# Altium footprint library lib.PcbLib: 39 footprints (part 2 of 3)
Each footprint in its own frame and in the unit in brackets; x right, y up, seen from the top. Pads: shape width x height; smd on the part's side, far side on the other; paste and mask are expansions set on the pad; w line width, h text height; cw(c..) or ccw(c..) is an arc to the next point about the centre after c.
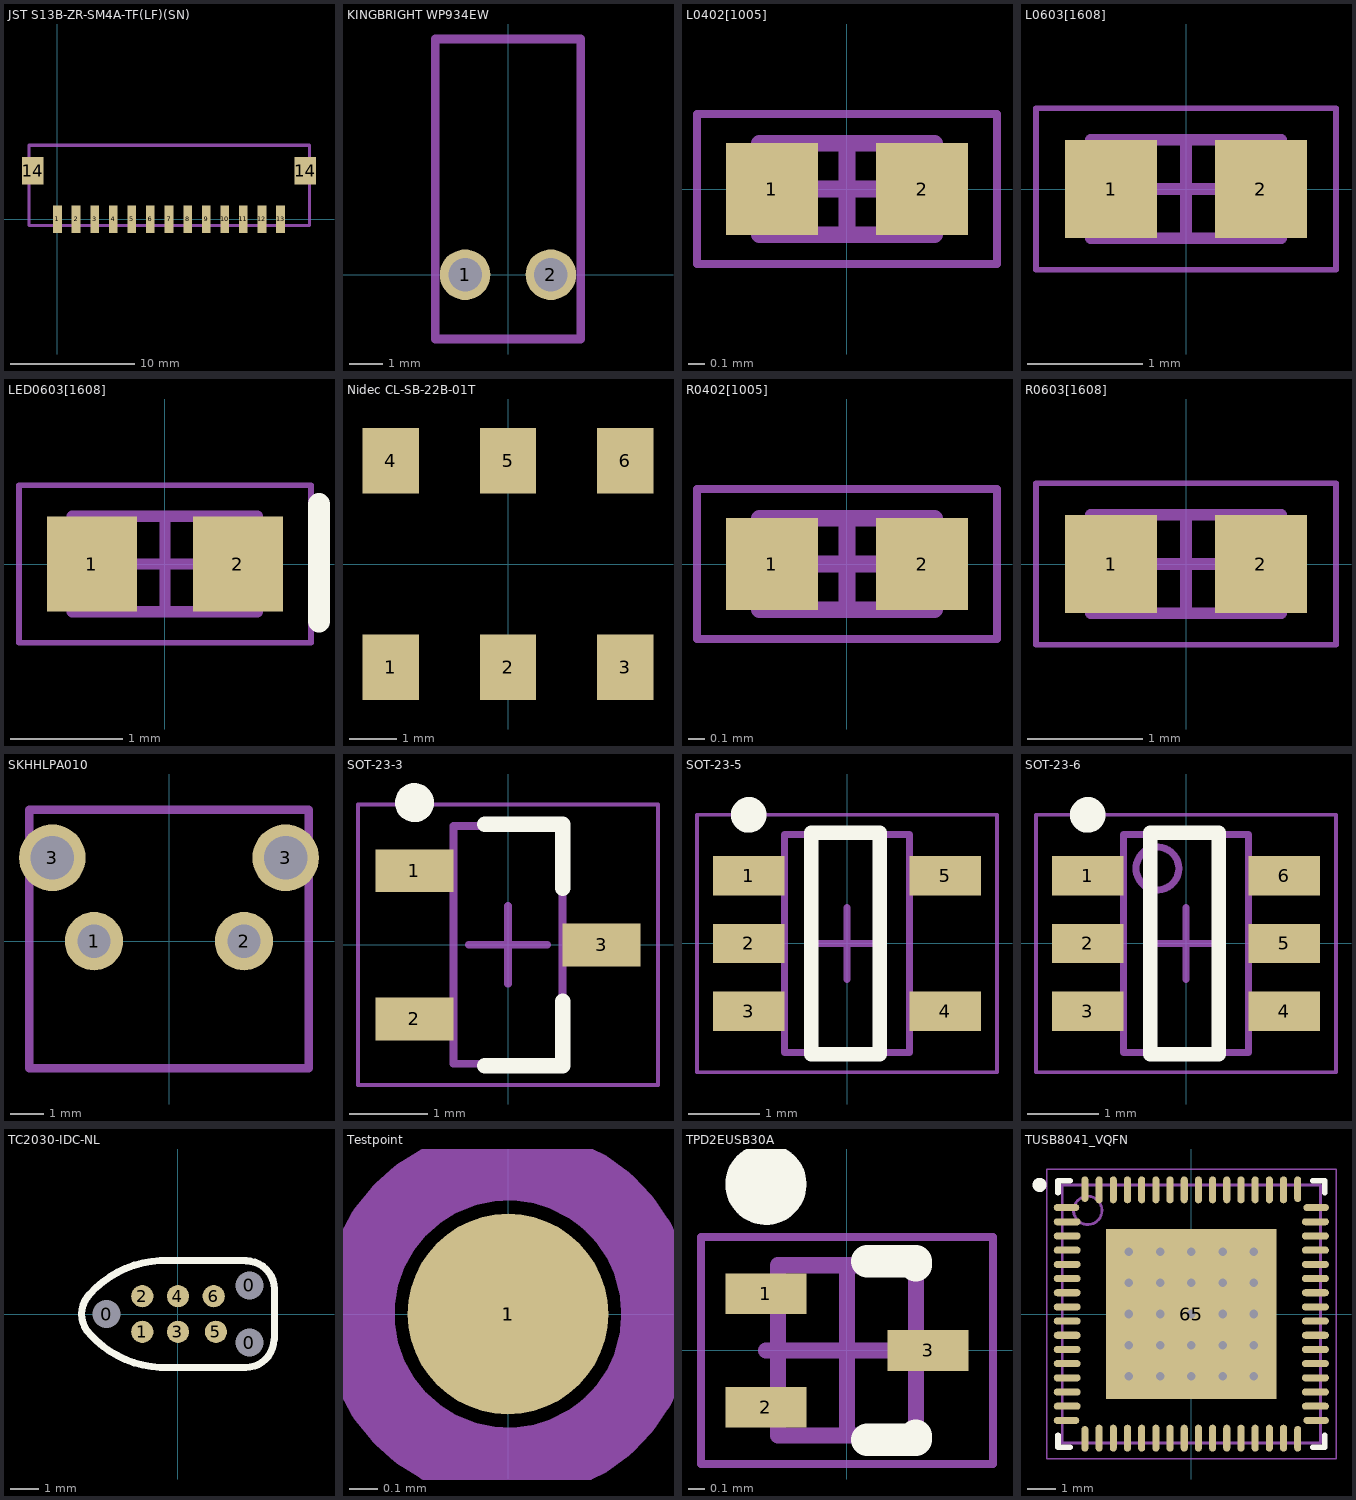
[diagram p1: the footprints below, top view; thin cyan lines are the x and y axes]

## JST S13B-ZR-SM4A-TF(LF)(SN) [mm]
pads (15):
  rect 0.7x2.2 smd: 1(0,0) 2(1.5,0) 3(3,0) 4(4.5,0) 5(6,0) 6(7.5,0) 7(9,0) 8(10.5,0) 9(12,0) 10(13.5,0) 11(15,0) 12(16.5,0) 13(18,0)
  rect 1.75x2.2 smd: 14(-2,3.9) 14(20,3.9)
Mechanical 13:
  lines w0.254: -2.286,-0.508 20.32,-0.508 20.32,5.969 -2.286,5.969 -2.286,-0.508
  text ".Designator" at 6.35,3.175 h0.5
3D body "S13B-ZR-SM4A-TF.STEP": height 3.7, standoff 0, extent -2.233,-0.531 20.267,5.969

## KINGBRIGHT WP934EW [mm]
height 7.3
pads (2):
  round 1.5 hole 1: 1(-1.27,0) 2(1.27,0)
Mechanical 13:
  lines w0.254: -2.16,-1.905 -2.16,6.985 2.16,6.985 2.16,-1.905 -2.16,-1.905
  text ".Designator" at -0.152,6.198 h0.5
3D body "934EW-1(1).STEP": height 7.35, standoff -3.63, extent -2.16,-1.905 2.16,6.985

## L0402[1005] [mm] "Chip Resistor, 2-Leads, Body 1,00x0,50mm, IPC Medium Density"
height 0.5
pads (2):
  rect 0.55x0.55 smd: 1(-0.45,0) 2(0.45,0)
Mechanical 13:
  lines w0.1: -0.525,-0.275 -0.525,0.275 0.525,0.275 0.525,-0.275 -0.525,-0.275
  text ".Designator" at -0.425,-0.1 h0.2
Mechanical 15:
  lines w0.05: -0.9,-0.45 -0.9,0.45 0.9,0.45 0.9,-0.45 -0.9,-0.45
  lines w0.1: -0.275,0 0.275,0 ; 0,-0.275 0,0.275
3D body: height 0.5, standoff 0, extent -0.325,-0.275 0.325,0.275

## L0603[1608] [mm] "Chip Resistor, 2-Leads, Body 1,57x0,80mm, IPC Medium Density"
height 0.5
pads (2):
  rect 0.8x0.85 smd: 1(-0.65,0) 2(0.65,0)
Mechanical 13:
  lines w0.1: -0.825,-0.425 -0.825,0.425 0.825,0.425 0.825,-0.425 -0.825,-0.425
  text ".Designator" at -1.05,-0.275 h0.35
Mechanical 15:
  lines w0.05: -1.3,-0.7 -1.3,0.7 1.3,0.7 1.3,-0.7 -1.3,-0.7
  lines w0.1: -0.425,0 0.425,0 ; 0,-0.425 0,0.425
3D body: height 0.5, standoff 0, extent -0.825,-0.425 -0.525,0.425
3D body: height 0.5, standoff 0, extent 0.525,-0.425 0.825,0.425
3D body: height 0.5, standoff 0, extent -0.525,-0.425 0.525,0.425

## LED0603[1608] [mm] "Chip Resistor, 2-Leads, Body 1,57x0,80mm, IPC Medium Density"
height 0.5
pads (2):
  rect 0.8x0.85 smd: 1(-0.65,0) 2(0.65,0)
Top Overlay:
  lines w0.2: 1.372,-0.508 1.372,0.533
Mechanical 13:
  lines w0.1: -0.825,-0.425 -0.825,0.425 0.825,0.425 0.825,-0.425 -0.825,-0.425
  text ".Designator" at -1.05,-0.275 h0.35
Mechanical 15:
  lines w0.05: -1.3,-0.7 -1.3,0.7 1.3,0.7 1.3,-0.7 -1.3,-0.7
  lines w0.1: -0.425,0 0.425,0 ; 0,-0.425 0,0.425
3D body "0603 Chip SMD LED (1.6x0.8mm).STEP": height 0.8, standoff 0, extent -0.774,-0.4 0.826,0.4

## Nidec CL-SB-22B-01T [mm]
pads (6):
  rect 1.2x1.4 smd: 1(-2.5,-2.2) 2(0,-2.2) 3(2.5,-2.2) 4(-2.5,2.2) 5(0,2.2) 6(2.5,2.2)
3D body "CL-SB-22B-01T.stp": height 5.5, standoff 0, extent -4.224,-2.449 4.275,2.551

## R0402[1005] [mm] "Chip Resistor, 2-Leads, Body 1,00x0,50mm, IPC Medium Density"
height 0.5
pads (2):
  rect 0.55x0.55 smd: 1(-0.45,0) 2(0.45,0)
Mechanical 13:
  lines w0.1: -0.525,-0.275 0.525,-0.275 0.525,0.275 -0.525,0.275 -0.525,-0.275
  text ".Designator" at -0.425,-0.1 h0.2
Mechanical 15:
  lines w0.05: -0.9,-0.45 0.9,-0.45 0.9,0.45 -0.9,0.45 -0.9,-0.45
  lines w0.1: -0.275,0 0.275,0 ; 0,-0.275 0,0.275
3D body: height 0.5, standoff 0, extent -0.325,-0.275 0.325,0.275

## R0603[1608] [mm] "Chip Resistor, 2-Leads, Body 1,57x0,80mm, IPC Medium Density"
height 0.5
pads (2):
  rect 0.8x0.85 smd: 1(-0.65,0) 2(0.65,0)
Mechanical 13:
  lines w0.1: -0.825,-0.425 -0.825,0.425 0.825,0.425 0.825,-0.425 -0.825,-0.425
  text ".Designator" at -1.05,-0.275 h0.35
Mechanical 15:
  lines w0.05: -1.3,-0.7 -1.3,0.7 1.3,0.7 1.3,-0.7 -1.3,-0.7
  lines w0.1: -0.425,0 0.425,0 ; 0,-0.425 0,0.425
3D body: height 0.5, standoff 0, extent -0.825,-0.425 -0.525,0.425
3D body: height 0.5, standoff 0, extent 0.525,-0.425 0.825,0.425
3D body: height 0.5, standoff 0, extent -0.525,-0.425 0.525,0.425

## SKHHLPA010 [mm]
pads (4):
  round 1.75 hole 1 paste-1 mask-1: 1(-2.25,0) 2(2.25,0)
  round 2 hole 1.3 paste-1 mask-1: 3(-3.5,2.5) 3(3.5,2.5)
Mechanical 13:
  lines w0.254: -4.191,-3.81 -4.191,3.937 4.191,3.937 4.191,-3.81 -4.191,-3.81
  text ".Designator" at 2.286,-1.651 h0.5
3D body "SKHHLP.STEP": height 7.4, standoff -3.5, extent -4.25,-3.858 4.25,4.042

## SOT-23-3 [mm] "3.3v regulator, used in Windsond S2 proto 1"
height 1.12
pads (3):
  rect 1x0.55 smd: 1(-1.2,0.95) 2(-1.2,-0.95) 3(1.2,0)
Top Overlay:
  circle w0.25: c-1.2,1.825 r0.125
  lines w0.2: -0.3,-1.55 0.7,-1.55 0.7,-0.725 ; -0.3,1.55 0.7,1.55 0.7,0.725
Mechanical 13:
  lines w0.1: -0.7,-1.525 -0.7,1.525 0.7,1.525 0.7,-1.525 -0.7,-1.525
  text ".Designator" at -0.275,1.625 h0.45
Mechanical 15:
  lines w0.05: -1.925,-1.8 -1.925,1.8 1.925,1.8 1.925,-1.8 -1.925,-1.8
  lines w0.1: -0.5,0 0.5,0 ; 0,-0.5 0,0.5
3D body "SOT-23.stp": height 1, standoff 0, extent -1.448,-1.5 1.102,1.5

## SOT-23-5 [mm]
height 1.45
pads (5):
  rect 1x0.55 smd: 1(-1.375,0.95) 2(-1.375,0) 3(-1.375,-0.95) 4(1.375,-0.95) 5(1.375,0.95)
Top Overlay:
  circle w0.25: c-1.375,1.8 r0.125
  lines w0.2: -0.5,-1.55 0.457,-1.55 0.457,1.55 -0.5,1.55 -0.5,-1.55
Mechanical 13:
  lines w0.1: -0.875,-1.525 -0.875,1.525 0.875,1.525 0.875,-1.525 -0.875,-1.525
  text ".Designator" at -0.2,1.525 h0.45
Mechanical 15:
  lines w0.05: -2.1,-1.8 -2.1,1.8 2.1,1.8 2.1,-1.8 -2.1,-1.8
  lines w0.1: -0.5,0 0.5,0 ; 0,-0.5 0,0.5
3D body "SOT23_5.stp": height 0.92, standoff 0.01, extent -1.628,-1.501 1.577,1.499

## SOT-23-6 [mm]
height 1.45
pads (6):
  rect 1x0.55 smd: 1(-1.375,0.95) 2(-1.375,0) 3(-1.375,-0.95) 4(1.375,-0.95) 5(1.375,0) 6(1.375,0.95)
Top Overlay:
  circle w0.25: c-1.375,1.8 r0.125
  lines w0.2: -0.5,-1.55 -0.5,1.55 0.457,1.55 0.457,-1.55 -0.5,-1.55
Mechanical 13:
  circle w0.1: c-0.4,1.05 r0.3
  lines w0.1: -0.875,-1.525 0.875,-1.525 0.875,1.525 -0.875,1.525 -0.875,-1.525
  text ".Designator" at 0.075,1.425 h0.45
Mechanical 15:
  lines w0.05: -2.1,-1.8 2.1,-1.8 2.1,1.8 -2.1,1.8 -2.1,-1.8
  lines w0.1: -0.5,0 0.5,0 ; 0,-0.5 0,0.5
3D body "sot-23-6.stp": height 1.05, standoff -0.06, extent -1.373,-1.436 1.472,1.485

## TC2030-IDC-NL [mm] "Tag-Connect 6-Pin with No Legs (PN# TC2030-IDC-NL)"
pads (9):
  round 0.9 hole 0.995 unplated: 0(-2.54,0) 0(2.54,-1.016) 0(2.54,1.016)
  round 0.79 smd paste-0.39: 1(-1.27,-0.635) 2(-1.27,0.635) 3(0,-0.635) 4(0,0.635) 5(1.35,-0.635) 6(1.27,0.635)
Top Overlay:
  lines w0.254: -0.635,-1.905 cw(c-0.445,1.714) -3.129,-0.72 cw(c-2.415,0) -3.135,0.714 cw(c-0.445,-1.714) -0.635,1.905 ; -0.635,-1.9 2.413,-1.9 ; -0.635,1.9 2.429,1.9 ; 2.413,-1.905 ccw(c2.413,-0.905) 3.413,-0.905 ; 2.429,1.889 cw(c2.429,0.889) 3.429,0.889 3.429,-0.905

## Testpoint [mm]
pads (2):
  round 0.7 smd paste-1 mask-1: 1(0,0)
  round 1 on Top Solder paste-1 mask-1: 1(0,0)
Mechanical 13:
  circle w0.254: c0,0 r0.524

## TPD2EUSB30A [mm] "SOTFL, 3-Leads, Body 1.00x1.00mm, Pitch 0.35mm, IPC Medium Density"
height 0.5
pads (3):
  rect 0.5x0.25 smd: 1(-0.5,0.35) 2(-0.5,-0.35) 3(0.5,0)
Top Overlay:
  circle w0.25: c-0.5,1.025 r0.125
  lines w0.2: 0.125,-0.55 0.425,-0.55 0.425,-0.525 ; 0.125,0.55 0.425,0.55 0.425,0.525
Mechanical 13:
  lines w0.1: -0.425,-0.525 -0.425,0.525 0.425,0.525 0.425,-0.525 -0.425,-0.525
  text ".Designator" at -0.1,0.425 h0.2
Mechanical 15:
  lines w0.05: -0.9,-0.7 -0.9,0.7 0.9,0.7 0.9,-0.7 -0.9,-0.7
  lines w0.1: -0.5,0 0.5,0 ; 0,-0.5 0,0.5
3D body: height 0.5, standoff 0, extent -0.425,-0.525 0.425,0.525

## TUSB8041_VQFN [mm]
height 1
pads (65):
  oval 0.9x0.25 smd: 1(-4.4,3.75) 16(-4.4,-3.75) 33(4.4,-3.75) 48(4.4,3.75)
  oval 0.95x0.25 smd: 2(-4.375,3.25) 3(-4.375,2.75) 4(-4.375,2.25) 5(-4.375,1.75) 6(-4.375,1.25) 7(-4.375,0.75) 8(-4.375,0.25) 9(-4.375,-0.25) 10(-4.375,-0.75) 11(-4.375,-1.25) 12(-4.375,-1.75) 13(-4.375,-2.25) 14(-4.375,-2.75) 15(-4.375,-3.25) 34(4.375,-3.25) 35(4.375,-2.75) 36(4.375,-2.25) 37(4.375,-1.75) 38(4.375,-1.25) 39(4.375,-0.75) 40(4.375,-0.25) 41(4.375,0.25) 42(4.375,0.75) 43(4.375,1.25) 44(4.375,1.75) 45(4.375,2.25) 46(4.375,2.75) 47(4.375,3.25)
  oval 0.25x0.9 smd: 17(-3.75,-4.4) 32(3.75,-4.4) 49(3.75,4.4) 64(-3.75,4.4)
  oval 0.25x0.95 smd: 18(-3.25,-4.375) 19(-2.75,-4.375) 20(-2.25,-4.375) 21(-1.75,-4.375) 22(-1.25,-4.375) 23(-0.75,-4.375) 24(-0.25,-4.375) 25(0.25,-4.375) 26(0.75,-4.375) 27(1.25,-4.375) 28(1.75,-4.375) 29(2.25,-4.375) 30(2.75,-4.375) 31(3.25,-4.375) 50(3.25,4.375) 51(2.75,4.375) 52(2.25,4.375) 53(1.75,4.375) 54(1.25,4.375) 55(0.75,4.375) 56(0.25,4.375) 57(-0.25,4.375) 58(-0.75,4.375) 59(-1.25,4.375) 60(-1.75,4.375) 61(-2.25,4.375) 62(-2.75,4.375) 63(-3.25,4.375)
  rect 6x6 smd paste-1000: 65(0,0)
via 2.2,-2.2 diameter 0.508 hole 0.3
via 1.1,-2.2 diameter 0.508 hole 0.3
via 0,-2.2 diameter 0.508 hole 0.3
via -1.1,-2.2 diameter 0.508 hole 0.3
via -2.2,-2.2 diameter 0.508 hole 0.3
via 2.2,-1.1 diameter 0.508 hole 0.3
via 1.1,-1.1 diameter 0.508 hole 0.3
via 0,-1.1 diameter 0.508 hole 0.3
via -1.1,-1.1 diameter 0.508 hole 0.3
via -2.2,-1.1 diameter 0.508 hole 0.3
via 2.2,0 diameter 0.508 hole 0.3
via 1.1,0 diameter 0.508 hole 0.3
via 0,0 diameter 0.508 hole 0.3
via -1.1,0 diameter 0.508 hole 0.3
via -2.2,0 diameter 0.508 hole 0.3
via 2.2,1.1 diameter 0.508 hole 0.3
via 1.1,1.1 diameter 0.508 hole 0.3
via 0,1.1 diameter 0.508 hole 0.3
via -1.1,1.1 diameter 0.508 hole 0.3
via -2.2,1.1 diameter 0.508 hole 0.3
via 2.2,2.2 diameter 0.508 hole 0.3
via 1.1,2.2 diameter 0.508 hole 0.3
via 0,2.2 diameter 0.508 hole 0.3
via -1.1,2.2 diameter 0.508 hole 0.3
via -2.2,2.2 diameter 0.508 hole 0.3
Top Overlay:
  circle w0.25: c-5.35,4.55 r0.125
  lines w0.2: -4.7,-4.275 -4.7,-4.7 -4.275,-4.7 ; -4.7,4.275 -4.7,4.7 -4.275,4.7 ; 4.275,-4.7 4.7,-4.7 4.7,-4.275 ; 4.275,4.7 4.7,4.7 4.7,4.275
Top Paste:
  rectangle: -2.878,-2.878 -1.354,-1.354
  region: 2.878,-2.878 2.878,-1.354 1.354,-1.354 1.354,-2.878
  region: -2.878,2.878 -2.878,1.354 -1.354,1.354 -1.354,2.878
  region: 2.878,2.878 1.354,2.878 1.354,1.354 2.878,1.354
  rectangle: -2.878,-0.838 -1.354,0.846
  region: -0.838,2.878 -0.838,1.354 0.846,1.354 0.846,2.878
  region: 0.838,-2.878 0.838,-1.354 -0.846,-1.354 -0.846,-2.878
  region: 2.878,0.838 1.354,0.838 1.354,-0.846 2.878,-0.846
  region: 0.838,0.838 -0.846,0.838 -0.846,-0.846 0.838,-0.846
Mechanical 13:
  circle w0.1: c-3.65,3.65 r0.5
  lines w0.1: -4.55,-4.55 4.55,-4.55 4.55,4.55 -4.55,4.55 -4.55,-4.55
  text ".Designator" at -1.245,-0.787 h0.5
Mechanical 15:
  lines w0.05: -5.1,-5.1 5.1,-5.1 5.1,5.1 -5.1,5.1 -5.1,-5.1
  lines w0.1: -0.5,0 0.5,0 ; 0,-0.5 0,0.5
3D body "QFN127P600-8N.step": height 1, standoff 0, extent -4.6,-4.6 4.6,4.6